# Altium footprint library Thumb Joystick.PcbLib: 1 footprints
Each footprint in its own frame and in the unit in brackets; x right, y up, seen from the top. Pads: shape width x height; smd on the part's side, far side on the other; paste and mask are expansions set on the pad; w line width, h text height; cw(c..) or ccw(c..) is an arc to the next point about the centre after c.
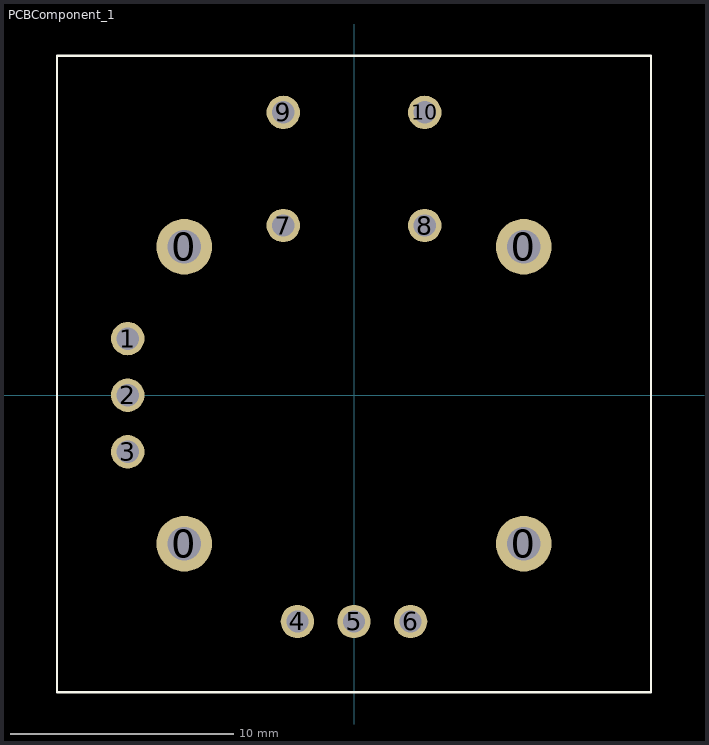
[diagram p0: the footprint, top view; thin cyan lines are the x and y axes]

## PCBComponent_1 [mm]
pads (14):
  round 2.5 hole 1.5: 0(-7.62,-6.667) 0(-7.62,6.667) 0(7.62,-6.667) 0(7.62,6.667)
  round 1.5 hole 1: 1(-10.16,2.54) 2(-10.16,0) 3(-10.16,-2.54) 4(-2.54,-10.16) 5(0,-10.16) 6(2.54,-10.16) 7(-3.175,7.62) 8(3.175,7.62) 9(-3.175,12.7) 10(3.175,12.7)
Top Overlay:
  lines w0.1: -13.335,-13.335 13.335,-13.335 13.335,15.24 -13.335,15.24 -13.335,-13.335
3D body: height 28.61, standoff -3, extent -13.222,-13.169 13.076,15.042